# EAGLE library part FT232R-QFN-32 (library FTDI FT232R)
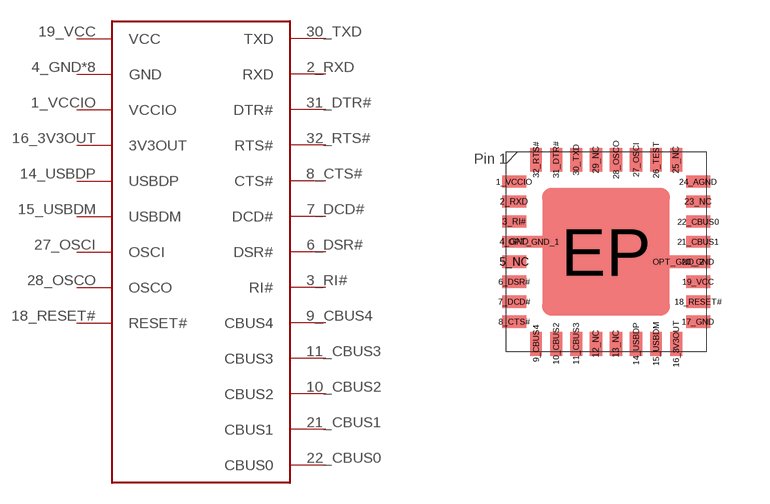
[diagram p0: symbol with the pads of QFN-32; footprint QFN-32]

Designator prefix -

## FT232R-QFN-32  [QFN-32]
1_VCCIO  VCCIO
2_RXD  RXD
3_RI#  RI#
4_GND  GND
6_DSR#  DSR#
7_DCD#  DCD#
8_CTS#  CTS#
9_CBUS4  CBUS4
10_CBUS2  CBUS2
11_CBUS3  CBUS3
14_USBDP  USBDP
15_USBDM  USBDM
16_3V3OUT  3V3OUT
17_GND  GND
18_RESET#  RESET#
19_VCC  VCC
20_GND  GND
21_CBUS1  CBUS1
22_CBUS0  CBUS0
24_AGND  GND
26_TEST  GND
27_OSCI  OSCI
28_OSCO  OSCO
30_TXD  TXD
31_DTR#  DTR#
32_RTS#  RTS#
EP  GND
OPT_GND_1  GND
OPT_GND_2  GND

## Footprint QFN-32 (pad centres in mm)
smd 0.6 x 0.3: 1_VCCIO -2.3,1.75; 2_RXD -2.3,1.25; 3_RI# -2.3,0.75; 4_GND -2.3,0.25; 5_NC -2.3,-0.25; 6_DSR# -2.3,-0.75; 7_DCD# -2.3,-1.25; 8_CTS# -2.3,-1.75; 17_GND 2.3,-1.75; 18_RESET# 2.3,-1.25; 19_VCC 2.3,-0.75; 20_GND 2.3,-0.25; 21_CBUS1 2.3,0.25; 22_CBUS0 2.3,0.75; 23_NC 2.3,1.25; 24_AGND 2.3,1.75; OPT_GND_1 -1.81,0.25; OPT_GND_2 1.8,-0.25
smd 0.3 x 0.6: 9_CBUS4 -1.75,-2.3; 10_CBUS2 -1.25,-2.3; 11_CBUS3 -0.75,-2.3; 12_NC -0.25,-2.3; 13_NC 0.25,-2.3; 14_USBDP 0.75,-2.3; 15_USBDM 1.25,-2.3; 16_3V3OUT 1.75,-2.3; 25_NC 1.75,2.3; 26_TEST 1.25,2.3; 27_OSCI 0.75,2.3; 28_OSCO 0.25,2.3; 29_NC -0.25,2.3; 30_TXD -0.75,2.3; 31_DTR# -1.25,2.3; 32_RTS# -1.75,2.3
smd 3.2 x 3.2: EP 0,0